# Altium integrated library LTC4020IUHF_PBF.IntLib: 1 symbol
Pins are listed as number, name and electrical type; pins without a type are passive.

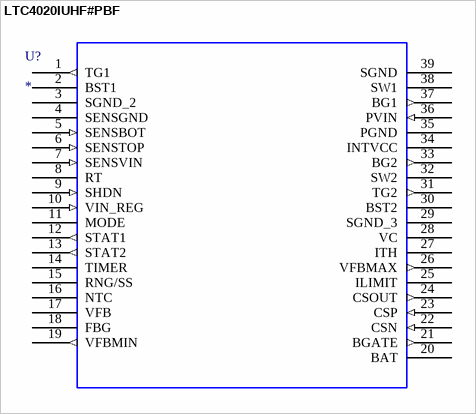
[diagram p0: symbol LTC4020IUHF#PBF]

## LTC4020IUHF#PBF
designator U?
55V Buck-Boost Multi-Chemistry Battery Charger; MF: Analog Devices; MP: LTC4020IUHF#PBF; SnapEDA_Link: https://www.snapeda.com/parts/LTC4020IUHF%23PBF/Analog+Devices/view-part/?ref=snap; Package: QFN-38 Linear Technology; Value: *; Check_prices: https://www.snapeda.com/parts/LTC4020IUHF%23PBF/Analog+Devices/view-part/?ref=eda
footprint QFN-38_UHF
pins: 1 TG1 (out), 2 BST1, 3 SGND_2 (power), 4 SENSGND, 5 SENSBOT (in), 6 SENSTOP (in), 7 SENSVIN (in), 8 RT, 9 SHDN (in), 10 VIN_REG (in), 11 MODE, 12 STAT1 (out), 13 STAT2 (out), 14 TIMER, 15 RNG/SS, 16 NTC, 17 VFB, 18 FBG, 19 VFBMIN (out), 20 BAT, 21 BGATE (out), 22 CSN (in), 23 CSP (in), 24 CSOUT (out), 25 ILIMIT, 26 VFBMAX (out), 27 ITH, 28 VC, 29 SGND_3 (power), 30 BST2, 31 TG2 (out), 32 SW2, 33 BG2 (out), 34 INTVCC, 35 PGND (power), 36 PVIN (in), 37 BG1 (out), 38 SW1, 39 SGND (power)